# Altium schematic symbol library sebnil_schematic_library.SchLib: 5 symbols
Pins are listed as number, name and electrical type; pins without a type are passive.

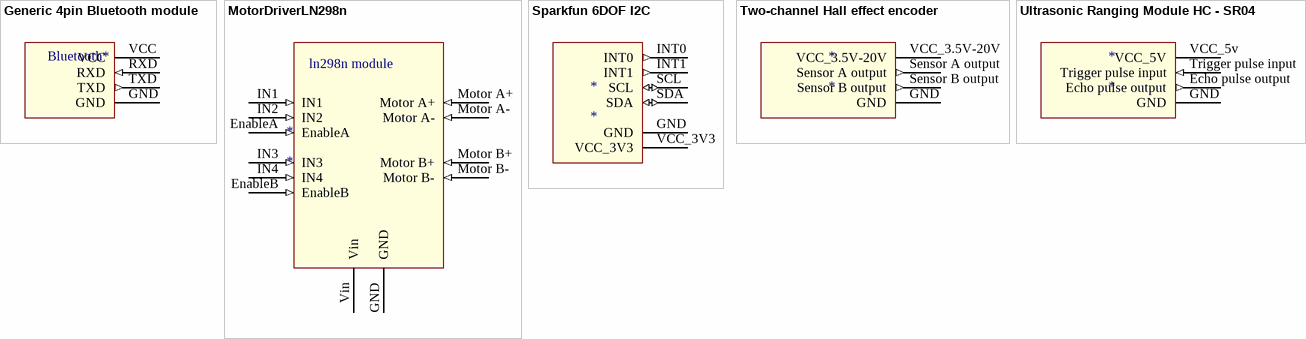
[diagram p0: symbols Generic 4pin Bluetooth module to Ultrasonic Ranging Module HC - SR04]

## Generic 4pin Bluetooth module
designator Bluetooth*  (value not drawn)
pins: GND, RXD (in), TXD (out), VCC (power)

## MotorDriverLN298n
designator *
Motor driver module ln298n
pins: EnableA (in), EnableB (in), GND (power), IN1 (in), IN2 (in), IN3 (in), IN4 (in), Motor A+ (in), Motor A- (in), Motor B+ (in), Motor B- (in), Vin (power)
text: ln298n module

## Sparkfun 6DOF I2C
designator *
pins: GND, INT0 (out), INT1 (out), SCL (io), SDA (io), VCC_3V3

## Two-channel Hall effect encoder
designator *
Two-channel Hall effect encoder
pins: GND, Sensor A output (out), Sensor B output (out), VCC_3.5V-20V (power)

## Ultrasonic Ranging Module HC - SR04
designator *
Ultrasonic Ranging Module HC - SR04
pins: Echo pulse output (out), GND, Trigger pulse input (in), VCC_5v VCC_5V (power)